# Altium footprint library Switch.PcbLib: 50 footprints (part 1 of 4)
Each footprint in its own frame and in the unit in brackets; x right, y up, seen from the top. Pads: shape width x height; smd on the part's side, far side on the other; paste and mask are expansions set on the pad; w line width, h text height; cw(c..) or ccw(c..) is an arc to the next point about the centre after c.
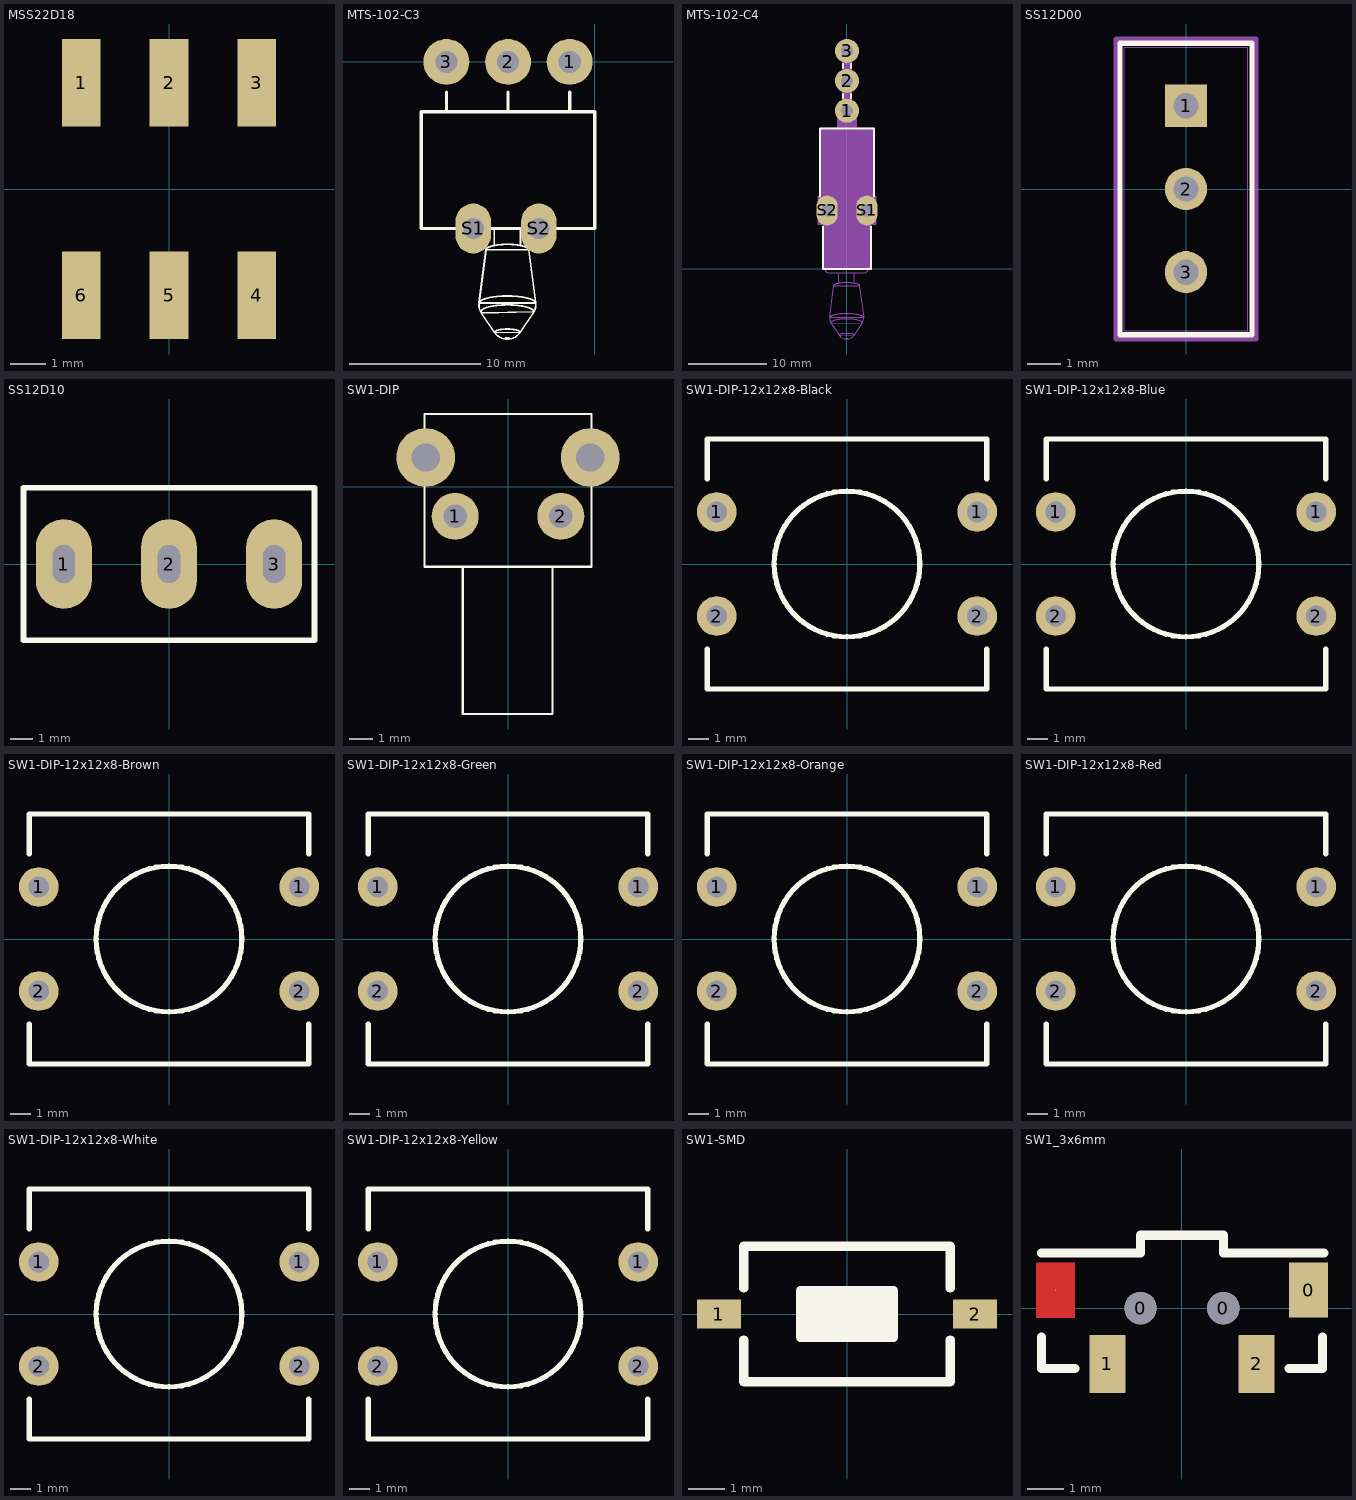
[diagram p0: the footprints below, top view; thin cyan lines are the x and y axes]

## MSS22D18 [mm]
pads (6):
  rect 1.1x2.5 smd: 1(-2.5,3.025) 2(0,3.025) 3(2.5,3.025) 4(2.5,-3.025) 5(0,-3.025) 6(-2.5,-3.025)
3D body "Selector Switch - MSS22D18.stp": height 5.8, standoff -0.02, extent -4.585,-3.488 4.585,3.421

## MTS-102-C3 [mm]
pads (5):
  round 3.5 hole 1.7: 1(-1.9,0) 2(-6.6,0) 3(-11.3,0)
  oval 2.7x3.81 hole 1.6: S1(-9.25,-12.7) S2(-4.25,-12.7)
Top Overlay:
  drawing of 716 lines, arcs and shapes, not listed
3D body "User Library-MTS-102-C3.step": height 9.46, standoff -1.64, extent -13.2,-26.7 0,0.55

## MTS-102-C4 [mm]
pads (5):
  round 3.048 hole 1.5: 1(0,20.142) 2(0,23.952) 3(0,27.762)
  oval 2.7x3.81 hole 1.6: S1(2.54,7.442) S2(-2.54,7.442)
Top Overlay:
  lines w0.127: -2.8,0 2.7,0
  lines w0.254: -3.429,9.22 -3.429,17.907 3.429,17.907 3.429,9.22 ; -3.048,5.41 -3.048,0 3.048,0 3.048,5.41 3.073,5.41 ; -0.508,21.793 -0.508,22.301 ; -0.508,25.603 -0.508,26.111 ; 0.508,21.793 0.508,22.301 ; 0.508,25.603 0.508,26.111
Mechanical 7:
  drawing of 729 lines, arcs and shapes, not listed
3D body "SPDT Subminiature Toggle.stp": height 13, standoff -2.5, extent -3.5,-8.383 3.5,28.012

## SS12D00 [mil]
pads (3):
  rect 50x50 hole 30 paste-99999 mask+0: 1(0,98.43)
  round 50 hole 30 paste-99999 mask+0: 2(0,0) 3(0,-98.43)
Top Overlay:
  lines w6: -78,-172.5 -78,172.5 78,172.5 78,-172.5 -78,-172.5
Mechanical 13:
  lines w1: -73,-167.5 -73,167.5 73,167.5 73,-167.5 -73,-167.5
Mechanical 15:
  lines w6: -83,-177.5 -83,177.5 83,177.5 83,-177.5 -83,-177.5
3D body "SPDT slide switch SS12D00.step": height 244.52, standoff -135.56, extent -68.9,-167.32 68.9,167.32

## SS12D10 [mm]
pads (3):
  oval 2.5x4 hole 1 slot 1.7 at 90 deg: 1(-4.7,0) 2(0,0) 3(4.7,0)
Top Overlay:
  lines w0.254: -6.5,-3.4 6.5,-3.4 6.5,3.4 -6.5,3.4 -6.5,-3.4
3D body "Basprov1.1 v2.step": height 10.76, standoff -6.33, extent -6.5,-3.4 6.5,3.4

## SW1-DIP [mm]
pads (4):
  round 2 hole 1: 1(-2.25,-1.25) 2(2.25,-1.25)
  round 2.5 hole 1.2: ""(-3.5,1.25) ""(3.5,1.25)
Top Overlay:
  lines w0.102: -3.55,0 -3.55,-3.4 3.55,-3.4 3.55,0 ; -3.55,2.5 -3.55,3.1 0,3.1 3.55,3.1 3.55,2.5 ; -1.92,-3.4 -1.92,-9.657 1.89,-9.657 1.89,-3.4
3D body "A06N-7.3Q.step": height 7.1, standoff -4.4, extent -4.171,-9.657 4.141,2.641

## SW1-DIP-12x12x8-Black [mm] "SW button 4pin, 12x12mm"
pads (4):
  round 1.905 hole 1: 1(-6.25,2.5) 1(6.25,2.5) 2(-6.25,-2.5) 2(6.25,-2.5)
Top Overlay:
  circle w0.254: c0,0 r3.5
  lines w0.254: -6.708,-4.087 -6.708,-6.007 6.708,-6.007 6.708,-4.087 ; -6.708,4.087 -6.708,6.007 6.708,6.007 6.708,4.087
3D body "Tactal Switch - THRU(12mmx12mmx8mm)-Black.stp": height 7.87, standoff -3.05, extent -6.708,-6.007 6.708,6.007

## SW1-DIP-12x12x8-Blue [mm] "SW button 4pin, 12x12mm"
pads (4):
  round 1.905 hole 1: 1(-6.25,2.5) 1(6.25,2.5) 2(-6.25,-2.5) 2(6.25,-2.5)
Top Overlay:
  circle w0.254: c0,0 r3.5
  lines w0.254: -6.708,-4.087 -6.708,-6.007 6.708,-6.007 6.708,-4.087 ; -6.708,4.087 -6.708,6.007 6.708,6.007 6.708,4.087
3D body "Tactal Switch - THRU(12mmx12mmx8mm)-Blue.stp": height 7.87, standoff -3.05, extent -6.708,-6.007 6.708,6.007

## SW1-DIP-12x12x8-Brown [mm] "SW button 4pin, 12x12mm"
pads (4):
  round 1.905 hole 1: 1(-6.25,2.5) 1(6.25,2.5) 2(-6.25,-2.5) 2(6.25,-2.5)
Top Overlay:
  circle w0.254: c0,0 r3.5
  lines w0.254: -6.708,-4.087 -6.708,-6.007 6.708,-6.007 6.708,-4.087 ; -6.708,4.087 -6.708,6.007 6.708,6.007 6.708,4.087
3D body "Tactal Switch - THRU(12mmx12mmx8mm)-Brown.stp": height 7.87, standoff -3.05, extent -6.708,-6.007 6.708,6.007

## SW1-DIP-12x12x8-Green [mm] "SW button 4pin, 12x12mm"
pads (4):
  round 1.905 hole 1: 1(-6.25,2.5) 1(6.25,2.5) 2(-6.25,-2.5) 2(6.25,-2.5)
Top Overlay:
  circle w0.254: c0,0 r3.5
  lines w0.254: -6.708,-4.087 -6.708,-6.007 6.708,-6.007 6.708,-4.087 ; -6.708,4.087 -6.708,6.007 6.708,6.007 6.708,4.087
3D body "Tactal Switch - THRU(12mmx12mmx8mm)-Green.stp": height 7.87, standoff -3.05, extent -6.708,-6.007 6.708,6.007

## SW1-DIP-12x12x8-Orange [mm] "SW button 4pin, 12x12mm"
pads (4):
  round 1.905 hole 1: 1(-6.25,2.5) 1(6.25,2.5) 2(-6.25,-2.5) 2(6.25,-2.5)
Top Overlay:
  circle w0.254: c0,0 r3.5
  lines w0.254: -6.708,-4.087 -6.708,-6.007 6.708,-6.007 6.708,-4.087 ; -6.708,4.087 -6.708,6.007 6.708,6.007 6.708,4.087
3D body "Tactal Switch - THRU(12mmx12mmx8mm)-Orange.stp": height 7.87, standoff -3.05, extent -6.708,-6.007 6.708,6.007

## SW1-DIP-12x12x8-Red [mm] "SW button 4pin, 12x12mm"
pads (4):
  round 1.905 hole 1: 1(-6.25,2.5) 1(6.25,2.5) 2(-6.25,-2.5) 2(6.25,-2.5)
Top Overlay:
  circle w0.254: c0,0 r3.5
  lines w0.254: -6.708,-4.087 -6.708,-6.007 6.708,-6.007 6.708,-4.087 ; -6.708,4.087 -6.708,6.007 6.708,6.007 6.708,4.087
3D body "Tactal Switch - THRU(12mmx12mmx8mm)-Red.stp": height 7.87, standoff -3.05, extent -6.708,-6.007 6.708,6.007

## SW1-DIP-12x12x8-White [mm] "SW button 4pin, 12x12mm"
pads (4):
  round 1.905 hole 1: 1(-6.25,2.5) 1(6.25,2.5) 2(-6.25,-2.5) 2(6.25,-2.5)
Top Overlay:
  circle w0.254: c0,0 r3.5
  lines w0.254: -6.708,-4.087 -6.708,-6.007 6.708,-6.007 6.708,-4.087 ; -6.708,4.087 -6.708,6.007 6.708,6.007 6.708,4.087
3D body "Tactal Switch - THRU(12mmx12mmx8mm)-White.stp": height 7.87, standoff -3.05, extent -6.708,-6.007 6.708,6.007

## SW1-DIP-12x12x8-Yellow [mm] "SW button 4pin, 12x12mm"
pads (4):
  round 1.905 hole 1: 1(-6.25,2.5) 1(6.25,2.5) 2(-6.25,-2.5) 2(6.25,-2.5)
Top Overlay:
  circle w0.254: c0,0 r3.5
  lines w0.254: -6.708,-4.087 -6.708,-6.007 6.708,-6.007 6.708,-4.087 ; -6.708,4.087 -6.708,6.007 6.708,6.007 6.708,4.087
3D body "Tactal Switch - THRU(12mmx12mmx8mm)-Yellow.stp": height 7.87, standoff -3.05, extent -6.708,-6.007 6.708,6.007

## SW1-SMD [mm]
pads (2):
  rect 1.2x0.8 smd: 1(-3.5,0) 2(3.5,0)
Top Overlay:
  rectangle: -1.27,-0.635 1.27,0.635
  lines w0.254: -2.819,-0.711 -2.819,-1.854 2.819,-1.854 2.819,-0.711 ; -2.819,0.711 -2.819,1.854 2.819,1.854 2.819,0.711 ; -1.27,-0.635 -1.27,0.635 1.27,0.635 1.27,-0.635 -1.27,-0.635
3D body "User Library-Button-SMD.step": height 2.5, standoff 0, extent -3.05,-1.85 3.05,1.85

## SW1_3x6mm [mm]
pads (6):
  round 0.025 smd: 0(-3.512,0.5)
  round 0.9 hole 0.9: 0(-1.15,0) 0(1.15,0)
  rect 1.075x1.524 smd: 0(3.512,0.5)
  rect 1x1.6 smd: 1(-2.07,-1.55) 2(2.07,-1.55)
Top Layer:
  region: -4.05,1.262 -4.05,-0.262 -2.975,-0.262 -2.975,1.262
Top Overlay:
  lines w0.254: -3.9,-0.8 -3.9,-1.678 -2.975,-1.678 ; -3.9,1.524 -1.15,1.524 -1.15,2.022 1.15,2.022 1.15,1.524 3.937,1.524 ; 2.975,-1.678 3.9,-1.678 3.9,-0.8
3D body "SMT-microinterruptor momentáneo.SLDPRT": height 0.25, standoff -4, extent -3.9,-1.678 3.9,2.022